# Altium schematic symbol library ch340C.SchLib: 6 symbols
Pins are listed as number, name and electrical type; pins without a type are passive.

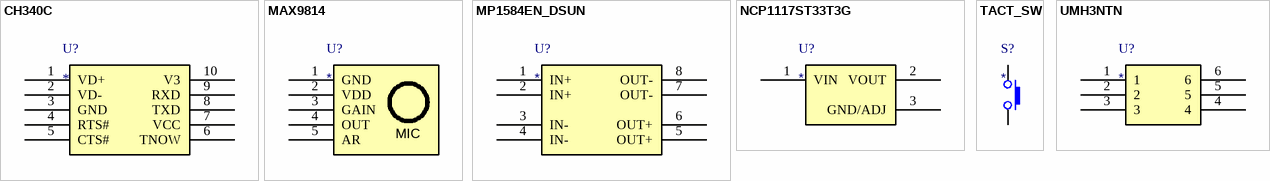
[diagram p0: symbols CH340C to UMH3NTN]

## CH340C
designator U?
footprint TSSOP50P400X100-10N (TSSOP, 10-Leads, Body 2.90x2.80mm, Pitch 0.50mm, IPC Medium Density)
pins: 1 VD+, 2 VD-, 3 GND, 4 RTS#, 5 CTS#, 6 TNOW, 7 VCC, 8 TXD, 9 RXD, 10 V3

## MAX9814
designator U?
footprint ADA_MAX9814
pins: 1 GND, 2 VDD, 3 GAIN, 4 OUT, 5 AR
text: MIC

## MP1584EN_DSUN
designator U?
footprint MP1584EN_DSUN
pins: 1 IN+, 2 IN+, 3 IN-, 4 IN-, 5 OUT+, 6 OUT+, 7 OUT-, 8 OUT- "1"

## NCP1117ST33T3G
designator U?
footprint SOT223
pins: 1 VIN, 2 VOUT, 3 GND/ADJ

## TACT_SW
designator S?
footprint TACT_SW
pins: 1, 2

## UMH3NTN
designator U?
footprint TSOP65P210X10-6N2 (TSOP, 6-Leads, Body 2.00x1.25mm, Pitch 0.65mm, IPC Medium Density)
pins: 1, 2, 3, 4, 5, 6